# Altium footprint library PCA9501.PcbLib: 1 footprints
Each footprint in its own frame and in the unit in brackets; x right, y up, seen from the top. Pads: shape width x height; smd on the part's side, far side on the other; paste and mask are expansions set on the pad; w line width, h text height; cw(c..) or ccw(c..) is an arc to the next point about the centre after c.
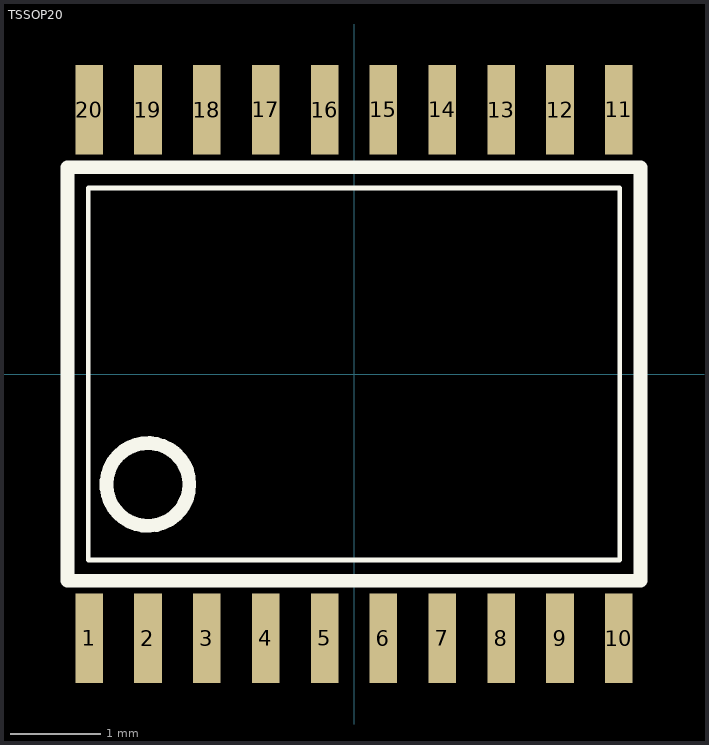
[diagram p0: the footprint, top view; thin cyan lines are the x and y axes]

## TSSOP20 [mil]
pads (20):
  rect 12x39 smd paste-1000 mask-1000: 1(-115.16,-114.87) 2(-89.57,-114.87) 3(-63.98,-114.87) 4(-38.39,-114.87) 5(-12.8,-114.87) 6(12.8,-114.87) 7(38.39,-114.87) 8(63.98,-114.87) 9(89.57,-114.87) 10(115.16,-114.87) 11(115.16,114.87) 12(89.57,114.87) 13(63.98,114.87) 14(38.39,114.87) 15(12.8,114.87) 16(-12.8,114.87) 17(-38.39,114.87) 18(-63.98,114.87) 19(-89.57,114.87) 20(-115.16,114.87)
Top Overlay:
  circle w6: c-89.59,-48 r18
  lines w2: -115.59,-80.87 -115.59,80.87 115.59,80.87 115.59,-80.87 -115.59,-80.87
  lines w6: -124.59,-89.87 -124.59,89.87 124.59,89.87 124.59,-89.87 -124.59,-89.87
Top Paste:
  region: -121.16,95.37 -109.16,95.37 -109.16,134.37 -121.16,134.37
  region: -95.57,95.37 -83.57,95.37 -83.57,134.37 -95.57,134.37
  region: -69.98,95.37 -57.98,95.37 -57.98,134.37 -69.98,134.37
  region: -44.39,95.37 -32.39,95.37 -32.39,134.37 -44.39,134.37
  region: -18.8,95.37 -6.8,95.37 -6.8,134.37 -18.8,134.37
  region: 6.8,95.37 18.8,95.37 18.8,134.37 6.8,134.37
  region: 32.39,95.37 44.39,95.37 44.39,134.37 32.39,134.37
  region: 57.98,95.37 69.98,95.37 69.98,134.37 57.98,134.37
  region: 83.57,95.37 95.57,95.37 95.57,134.37 83.57,134.37
  region: 109.16,95.37 121.16,95.37 121.16,134.37 109.16,134.37
  region: 109.16,-134.37 121.16,-134.37 121.16,-95.37 109.16,-95.37
  region: 83.57,-134.37 95.57,-134.37 95.57,-95.37 83.57,-95.37
  region: 57.98,-134.37 69.98,-134.37 69.98,-95.37 57.98,-95.37
  region: 32.39,-134.37 44.39,-134.37 44.39,-95.37 32.39,-95.37
  region: 6.8,-134.37 18.8,-134.37 18.8,-95.37 6.8,-95.37
  region: -18.8,-134.37 -6.8,-134.37 -6.8,-95.37 -18.8,-95.37
  region: -44.39,-134.37 -32.39,-134.37 -32.39,-95.37 -44.39,-95.37
  region: -69.98,-134.37 -57.98,-134.37 -57.98,-95.37 -69.98,-95.37
  region: -95.57,-134.37 -83.57,-134.37 -83.57,-95.37 -95.57,-95.37
  region: -121.16,-134.37 -109.16,-134.37 -109.16,-95.37 -121.16,-95.37
Top Solder:
  region: -125.09,91.44 -105.22,91.44 -105.22,138.31 -125.09,138.31
  region: -99.5,91.44 -79.63,91.44 -79.63,138.31 -99.5,138.31
  region: -73.91,91.44 -54.04,91.44 -54.04,138.31 -73.91,138.31
  region: -48.32,91.44 -28.45,91.44 -28.45,138.31 -48.32,138.31
  region: -22.73,91.44 -2.86,91.44 -2.86,138.31 -22.73,138.31
  region: 2.86,91.44 22.73,91.44 22.73,138.31 2.86,138.31
  region: 28.45,91.44 48.32,91.44 48.32,138.31 28.45,138.31
  region: 54.04,91.44 73.91,91.44 73.91,138.31 54.04,138.31
  region: 79.63,91.44 99.5,91.44 99.5,138.31 79.63,138.31
  region: 105.22,91.44 125.09,91.44 125.09,138.31 105.22,138.31
  region: 105.22,-138.31 125.09,-138.31 125.09,-91.44 105.22,-91.44
  region: 79.63,-138.31 99.5,-138.31 99.5,-91.44 79.63,-91.44
  region: 54.04,-138.31 73.91,-138.31 73.91,-91.44 54.04,-91.44
  region: 28.45,-138.31 48.32,-138.31 48.32,-91.44 28.45,-91.44
  region: 2.86,-138.31 22.73,-138.31 22.73,-91.44 2.86,-91.44
  region: -22.73,-138.31 -2.86,-138.31 -2.86,-91.44 -22.73,-91.44
  region: -48.32,-138.31 -28.45,-138.31 -28.45,-91.44 -48.32,-91.44
  region: -73.91,-138.31 -54.04,-138.31 -54.04,-91.44 -73.91,-91.44
  region: -99.5,-138.31 -79.63,-138.31 -79.63,-91.44 -99.5,-91.44
  region: -125.09,-138.31 -105.22,-138.31 -105.22,-91.44 -125.09,-91.44